# EAGLE library part TLC555 (library thomas_library)
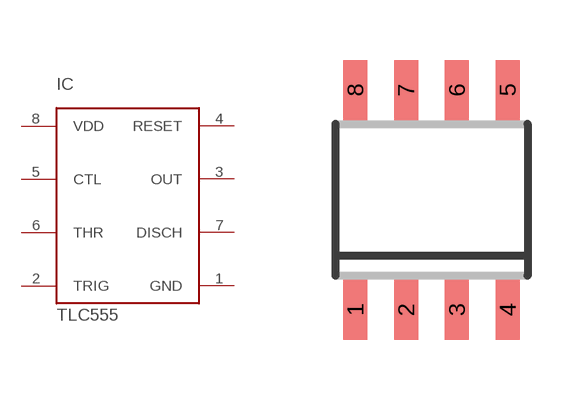
[diagram p24: symbol with the pads of SOIC8; footprint SOIC8]

Designator prefix IC

## TLC555SOIC-8  [SOIC8]
1  GND
2  TRIG
3  OUT
4  RESET
5  CTL
6  THR
7  DISCH
8  VDD

## Footprint SOIC8 (pad centres in mm)
SOIC-8 CASE 751-07 Source: http://www.onsemi.com/pub/Collateral/MC34164-D.PDF D (R-PDSO-G8)PLATIC SMALL-OUTLINE PACKAGE Source: http://focus.ti.com/lit/ds/symlink/tlc27l2.pdf
smd 0.6 x 1.5: 1 -1.905,-2.75; 2 -0.635,-2.75; 3 0.635,-2.75; 4 1.905,-2.75; 5 1.905,2.75; 6 0.635,2.75; 7 -0.635,2.75; 8 -1.905,2.75